# Altium footprint library PCB - EEPROM - UFDFPN8.PCBLIB: 1 footprints
Each footprint in its own frame and in the unit in brackets; x right, y up, seen from the top. Pads: shape width x height; smd on the part's side, far side on the other; paste and mask are expansions set on the pad; w line width, h text height; cw(c..) or ccw(c..) is an arc to the next point about the centre after c.
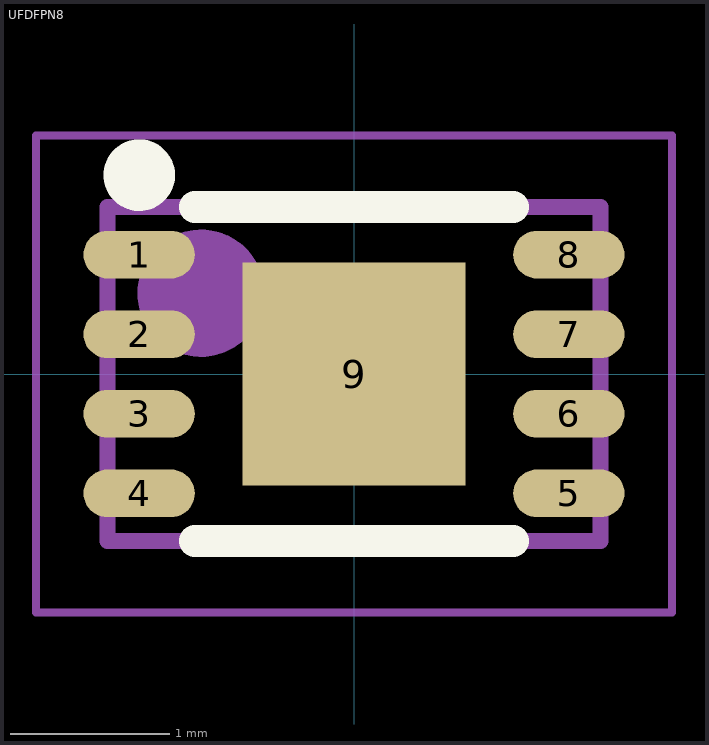
[diagram p0: the footprint, top view; thin cyan lines are the x and y axes]

## UFDFPN8 [mm]
height 0.6
pads (9):
  oval 0.7x0.3 smd: 1(-1.35,0.75) 2(-1.35,0.25) 3(-1.35,-0.25) 4(-1.35,-0.75) 5(1.35,-0.75) 6(1.35,-0.25) 7(1.35,0.25) 8(1.35,0.75)
  rect 1.4x1.4 smd: 9(0,0)
Top Overlay:
  circle w0.25: c-1.35,1.25 r0.1
  lines w0.2: -1,-1.05 1,-1.05 ; -1,1.05 1,1.05
Top Assembly:
  circle w0.4: c-0.962,0.508 r0.2
  lines w0.1: -1.55,-1.05 1.55,-1.05 1.55,1.05 -1.55,1.05 -1.55,-1.05
Top Courtyard:
  lines w0.05: -2,-1.5 2,-1.5 2,1.5 -2,1.5 -2,-1.5
Top Designator:
  text ".Designator" at -0.4,1.3 h0.76
Top Component Center:
  lines w0.05: -0.5,0 0.5,0 ; 0,-0.5 0,0.5
3D body: height 0.61, standoff 0, extent -1.2,0.3 -0.8,0.7
3D body: height 0.6, standoff 0, extent -1.55,-1.05 1.55,1.05